# EAGLE library part MEGA (library atmega8)
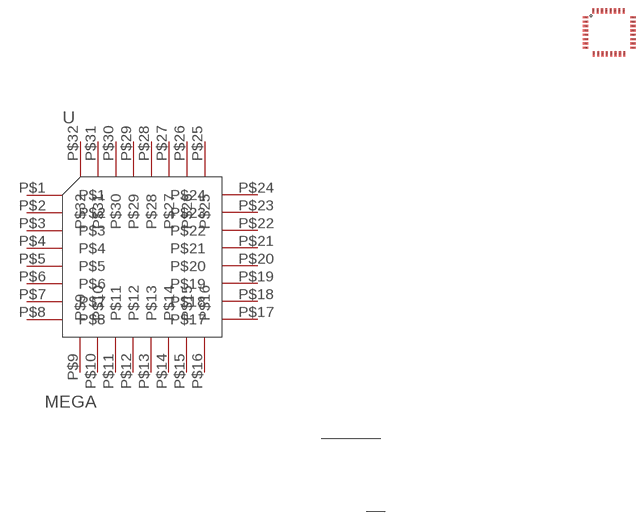
[diagram p0: symbol with the pads of TQFP-MEGA8L; footprint TQFP-MEGA8L]

Designator prefix -

## MEGA  [TQFP-MEGA8L]
P$1  P$1
P$2  P$2
P$3  P$3
P$4  P$4
P$5  P$5
P$6  P$6
P$7  P$7
P$8  P$8
P$9  P$9
P$10  P$10
P$11  P$11
P$12  P$12
P$13  P$13
P$14  P$14
P$15  P$15
P$16  P$16
P$17  P$17
P$18  P$18
P$19  P$19
P$20  P$20
P$21  P$21
P$22  P$22
P$23  P$23
P$24  P$24
P$25  P$25
P$26  P$26
P$27  P$27
P$28  P$28
P$29  P$29
P$30  P$30
P$31  P$31
P$32  P$32

## Footprint TQFP-MEGA8L (pad centres in mm)
smd 1 x 0.4: P$1 -699.21,-323.09; P$2 -699.21,-323.89; P$3 -699.21,-324.69; P$4 -699.21,-325.49; P$5 -699.21,-326.29; P$6 -699.21,-327.09; P$7 -699.21,-327.89; P$8 -699.21,-328.69; P$17 -690.51,-328.69; P$18 -690.51,-327.89; P$19 -690.51,-327.09; P$20 -690.51,-326.29; P$21 -690.51,-325.49; P$22 -690.51,-324.69; P$23 -690.51,-323.89; P$24 -690.51,-323.09
smd 0.4 x 1: P$9 -697.71,-329.79; P$10 -696.91,-329.79; P$11 -696.11,-329.79; P$12 -695.31,-329.79; P$13 -694.51,-329.79; P$14 -693.71,-329.79; P$15 -692.91,-329.79; P$16 -692.11,-329.79; P$25 -692.21,-321.89; P$26 -693.01,-321.89; P$27 -693.81,-321.89; P$28 -694.61,-321.89; P$29 -695.41,-321.89; P$30 -696.21,-321.89; P$31 -697.01,-321.89; P$32 -697.81,-321.89